# EAGLE library part MCA1-24 (library minicircuits)
LTCC RF MIXER LO Power Level 7 dBm 1 dB COMPR.: +1 dBm typ. E = [IP3(dBm)-LO Power(dBm)]/10 Maximum Ratings: RF Power: 50mW IF Current: 40mA Maximum Storage Temperature: -55°C to 100°C Electrical Specifications MCA1-24 LO Power Level 7 dBm Frequency MHz Max. Conversion Loss dB Min. LO-RF Isolation dB Min. LO-IF Isolation dB LO/RF IF Mid-Band Total Range L M U L M U 300-2400 DC-700 8.9 25 15 L=low range(fL to 10fL) M=mid range(10fL to fU/2) U=upper range(fU/2 to fU) Typical Performance Data MCA1-24 Conversion Loss (dB) ISO Isolation L-R (dB) Isolation L-I (dB) RF MHz LO MHz LO +4 dBm LO +7 dBm LO +10 dBm LO (MHz) LO +4 dBm LO +7 dBm LO +10 dBm LO +4 dBm LO +7 dBm LO +10 dBm 301.000 331.000 6.27 5.65 5.53 331.000 49.35 49.09 48.40 21.27 22.79 24.58 351.000 381.000 5.53 5.19 5.06 381.000 44.12 44.27 44.39 21.24 23.27 24.98 401.000 431.000 5.21 4.79 4.63 431.000 41.55 42.44 43.01 22.32 24.50 26.29 451.000 481.000 6.00 5.35 4.97 481.000 40.47 41.42 42.26 23.30 25.19 26.68 501.000 531.000 7.26 6.25 5.68 531.000 44.10 44.11 44.26 24.88 26.82 28.18 551.000 581.000 7.67 6.89 6.45 581.000 65.59 59.36 55.46 26.17 27.81 29.02 601.000 631.000 7.13 6.76 6.59 631.000 51.51 51.55 50.99 27.30 27.77 27.66 701.000 731.000 6.73 6.44 6.38 731.000 45.13 43.51 42.46 27.71 26.63 25.79 751.000 781.000 6.70 6.31 6.28 781.000 44.34 42.98 41.57 28.62 27.74 26.89 801.000 831.000 7.12 6.58 6.39 831.000 43.42 42.94 42.31 32.45 30.90 29.36 851.000 881.000 7.23 6.72 6.50 881.000 42.70 43.13 43.50 29.26 29.48 29.47 901.000 931.000 7.45 6.94 6.72 931.000 42.24 42.58 42.94 26.60 28.29 29.73 951.000 981.000 7.40 6.97 6.79 981.000 42.63 43.00 43.13 24.06 25.95 27.78 1001.000 1031.000 7.40 6.97 6.79 1031.000 43.44 43.32 43.22 24.02 25.94 27.58 1051.000 1081.000 7.45 7.03 6.86 1081.000 44.10 43.54 43.07 25.29 27.04 28.54 1101.000 1131.000 7.49 7.01 6.79 1131.000 44.35 43.49 42.93 26.84 28.63 30.21 1151.000 1181.000 7.67 7.00 6.68 1181.000 44.78 43.47 42.60 27.81 29.90 31.61 1201.000 1231.000 7.90 7.06 6.63 1231.000 43.44 42.85 42.17 28.01 30.29 32.53 1251.000 1281.000 7.93 7.12 6.69 1281.000 46.47 44.47 43.29 28.17 30.41 32.64 1301.000 1331.000 7.62 7.04 6.75 1331.000 43.43 41.88 40.99 27.90 30.02 32.17 1351.000 1381.000 6.91 6.26 5.95 1381.000 40.51 38.89 38.77 27.26 29.37 31.40 1401.000 1431.000 6.50 5.82 5.50 1431.000 49.73 44.38 39.93 26.76 29.05 31.39 1451.000 1481.000 6.30 5.63 5.36 1481.000 46.30 43.54 41.45 26.15 28.38 30.84 1501.000 1531.000 6.12 5.51 5.25 1531.000 42.59 39.43 37.30 25.67 27.85 30.50 1551.000 1581.000 5.83 5.08 4.88 1581.000 41.64 38.17 36.14 25.20 28.06 30.88 1601.000 1631.000 5.41 4.88 4.79 1631.000 40.07 36.69 34.66 25.43 27.77 30.30 1701.000 1731.000 5.36 4.99 4.95 1731.000 39.62 36.78 34.55 23.69 25.41 27.23 1801.000 1831.000 5.50 5.12 5.02 1831.000 36.18 34.35 32.95 20.80 22.43 24.33 1901.000 1931.000 5.63 5.22 5.11 1931.000 34.63 33.88 33.31 20.25 21.85 23.64 2001.000 2031.000 6.58 5.90 5.60 2031.000 35.12 33.55 32.66 22.17 23.65 25.40 2101.000 2131.000 7.48 6.71 6.33 2131.000 36.67 34.95 33.84 24.18 25.86 27.47 2201.000 2231.000 7.83 6.87 6.58 2231.000 38.51 36.05 34.11 22.54 22.75 22.95 2301.000 2331.000 8.19 6.92 6.68 2331.000 39.64 38.77 37.20 24.26 24.22 23.76 2401.000 2431.000 8.70 7.09 6.83 2431.000 37.97 36.83 34.94 29.72 29.81 28.52 RF/LO VSWR RF port VSWR LO port IF VSWR IF port FREQ. (MHz) LO +4 dBm LO +7 dBm LO +10 dBm LO +4 dBm LO +7 dBm LO +10 dBm FREQ. (MHz) LO +4 dBm LO +7 dBm LO +10 dBm 331.000 1.94 1.98 2.03 9.01 6.94 7.48 10.000 1.50 1.30 1.17 381.000 1.50 1.51 1.52 3.31 3.68 4.50 35.000 1.58 1.37 1.22 431.000 1.48 1.37 1.29 1.87 2.42 3.16 60.000 1.63 1.43 1.30 481.000 2.52 2.34 2.19 1.33 1.85 2.48 85.000 1.69 1.50 1.39 531.000 4.10 3.58 3.29 1.04 1.36 1.82 100.000 1.76 1.57 1.45 581.000 4.45 4.15 4.01 1.42 1.25 1.62 125.000 1.86 1.68 1.58 631.000 4.24 4.03 3.95 1.77 1.51 1.76 150.000 1.95 1.77 1.68 731.000 3.91 3.58 3.37 2.12 2.12 2.51 175.000 2.09 1.90 1.80 781.000 4.05 3.69 3.23 2.46 2.72 3.33 200.000 2.19 2.01 1.91 831.000 4.40 4.01 3.69 2.63 3.01 3.64 250.000 2.42 2.24 2.12 881.000 4.75 4.33 4.07 2.91 3.64 4.64 275.000 2.53 2.32 2.21 931.000 5.24 4.77 4.44 2.91 3.78 4.82 300.000 2.61 2.40 2.28 981.000 5.11 4.68 4.45 2.63 3.54 4.59 325.000 2.69 2.46 2.33 1031.000 4.82 4.48 4.29 2.80 3.85 5.28 350.000 2.74 2.52 2.36 1081.000 4.96 4.61 4.37 2.64 3.54 4.56 375.000 2.78 2.51 2.34 1131.000 4.84 4.49 4.22 3.34 4.27 5.58 400.000 2.77 2.49 2.30 1181.000 5.30 4.79 4.58 3.52 4.32 5.36 425.000 2.78 2.46 2.26 1231.000 5.38 4.88 4.55 4.13 4.84 5.93 450.000 2.70 2.38 2.16 1281.000 5.49 4.91 4.53 4.73 5.08 6.02 475.000 2.65 2.30 2.07 1331.000 4.42 3.94 3.81 4.96 4.91 5.42 500.000 2.62 2.26 2.02 1381.000 3.70 3.14 2.81 5.39 5.01 5.41 525.000 2.57 2.20 1.95 1431.000 3.44 2.97 2.49 5.02 4.46 4.73 550.000 2.45 2.09 1.85 1481.000 2.89 2.54 2.27 5.08 3.95 3.95 575.000 2.31 1.97 1.74 1531.000 2.29 1.91 1.63 4.51 3.22 3.13 600.000 2.18 1.83 1.62 1581.000 1.70 1.38 1.28 4.29 2.88 2.68 625.000 2.08 1.75 1.55 1631.000 1.42 1.27 1.25 4.15 2.69 2.30 650.000 2.02 1.72 1.55 1731.000 1.23 1.29 1.38 2.54 1.64 1.29 675.000 2.02 1.77 1.66 1831.000 1.18 1.31 1.39 1.48 1.06 1.40 700.000 2.10 1.92 1.87 1931.000 1.29 1.38 1.49 1.56 1.74 2.15 750.000 2.49 2.46 2.54 2031.000 2.28 2.15 2.05 2.55 2.56 2.92 800.000 3.24 3.40 3.56 2131.000 3.58 3.32 3.20 3.90 3.23 3.29 850.000 4.05 4.33 4.53 2231.000 4.17 3.90 3.78 5.62 3.61 3.01 900.000 4.71 4.92 5.07 2331.000 4.40 3.77 3.55 6.57 4.04 2.83 950.000 4.33 4.36 4.37 2431.000 4.11 3.39 3.10 7.57 4.83 2.98 1000.000 4.65 4.68 4.71 RF LO IP3 1500 1470 5.52 1550 1520 4.56 1600 1570 16.48 1650 1620 16.32 1700 1670 15.08 1750 1720 20.23 1800 1770 16.49 1850 1820 14.06 1900 1870 11.79 2000 1970 11.02 2050 2020 13.42 2100 2070 13.87 2150 2120 11.07 2200 2170 10.34 2250 2220 10.2 2300 2270 9.02 2350 2320 9.98 2400 2370 12.68
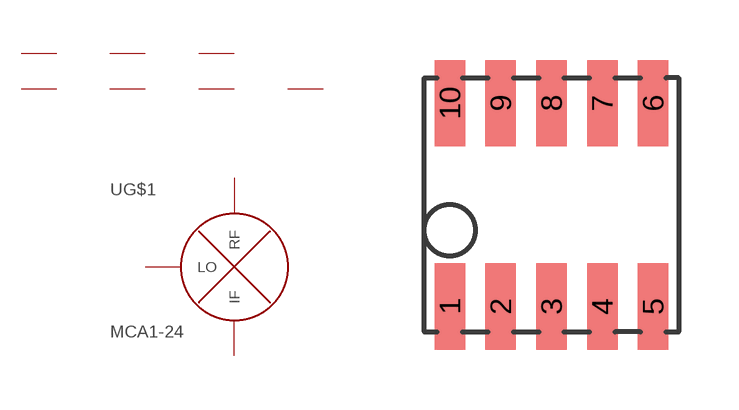
[diagram p8: symbol with the pads of DZ885; footprint DZ885]

Designator prefix -; gates G$1=RF-MIXER G$2=GND G$3=GND G$4=GND G$5=GND G$6=GND G$7=GND G$8=GND

## MCA1-24  [DZ885]
1  G$2:GND  pwr
2  G$3:GND  pwr
3  G$1:IF
4  G$4:GND  pwr
5  G$1:RF
6  G$5:GND  pwr
7  G$6:GND  pwr
8  G$7:GND  pwr
9  G$8:GND  pwr
10  G$1:LO

## Footprint DZ885 (pad centres in mm)
DZ885 http://www.minicircuits.com/cgi-bin/inquery.cgi?querystring=dz885&searchtype=case&x=20&y=14
smd 0.762 x 2.159: 1 0,1.27; 2 1.27,1.27; 3 2.54,1.27; 4 3.81,1.27; 5 5.08,1.27; 6 5.08,6.35; 7 3.81,6.35; 8 2.54,6.35; 9 1.27,6.35; 10 0,6.35